# EAGLE library part DMG6968UDM (library ds31758)
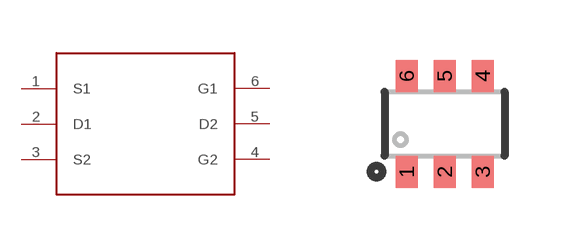
[diagram p1: symbol with the pads of SOT26; footprint SOT26]

Designator prefix Q

## DMG6968UDM  [SOT26]
1  S1
2  D1
3  S2
4  G2
5  D2
6  G1

## Footprint SOT26 (pad centres in mm)
Footprint for SOT-26 part DMP2240UDM
smd 0.55 x 0.8: 1 -0.95,-1.2; 2 0,-1.2; 3 0.95,-1.2; 4 0.95,1.2; 5 0,1.2; 6 -0.95,1.2